# Altium schematic symbol library BCX5616TA.SchLib: 1 symbol
Pins are listed as number, name and electrical type; pins without a type are passive.

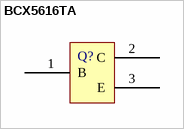
[diagram p0: symbol BCX5616TA]

## BCX5616TA
designator Q?  (value not drawn)
footprint BCX5616TA
pins: 1 B, 2 C, 3 E